# EAGLE library part 74165-? (library ic-74)
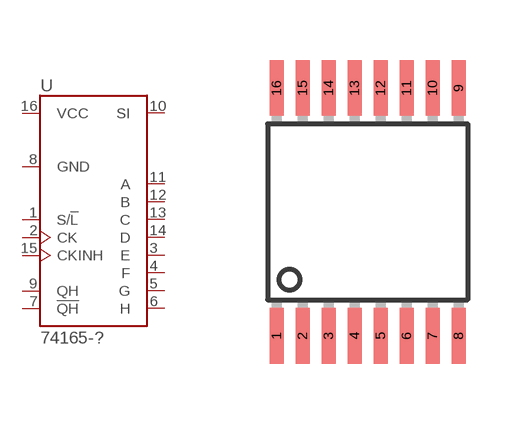
[diagram p2: symbol with the pads of TSSOP16; footprint TSSOP16]

Designator prefix U

## 74165-TSSOP  [TSSOP16]
1  S/!L
2  CK
3  E
4  F
5  G
6  H
7  !QH
8  GND
9  QH
10  SI
11  A
12  B
13  C
14  D
15  CKINH
16  VCC

## Footprint TSSOP16 (pad centres in mm)
smd 0.35 x 1.4: 1 -2.275,-3.1; 2 -1.625,-3.1; 3 -0.975,-3.1; 4 -0.325,-3.1; 5 0.325,-3.1; 6 0.975,-3.1; 7 1.625,-3.1; 8 2.275,-3.1; 9 2.275,3.1; 10 1.625,3.1; 11 0.975,3.1; 12 0.325,3.1; 13 -0.325,3.1; 14 -0.975,3.1; 15 -1.625,3.1; 16 -2.275,3.1